# EAGLE library part TPS22918TDBVRQ1 (library CharIoT)
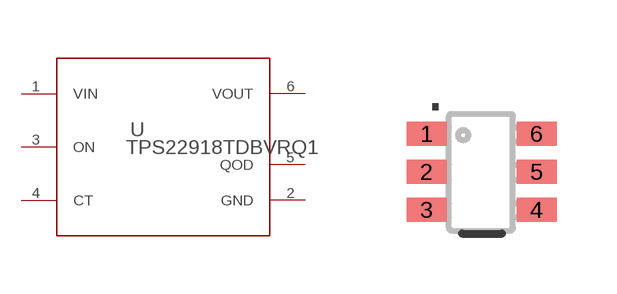
[diagram p6: symbol with the pads of DBV0006A_N; footprint DBV0006A_N]

Designator prefix U

## TPS22918TDBVRQ1 (MANUFACTURER: Texas Instruments; PARTNUMBER: TPS22918TDBVRQ1; REFDES: RefDes; TYPE: TYPE; VALUE: Value)  [DBV0006A_N]
1  VIN  pwr
2  GND  pwr
3  ON  in
4  CT  out
5  QOD  in
6  VOUT  pwr

## Footprint DBV0006A_N (pad centres in mm)
smd 1 x 0.6: 1 -1.375,0.95; 2 -1.375,0; 3 -1.375,-0.95; 4 1.375,-0.95; 5 1.375,0; 6 1.375,0.95